# EAGLE library part ARDUINO_UNO_R3_SHIELD (library Strutz Electronic Industries)
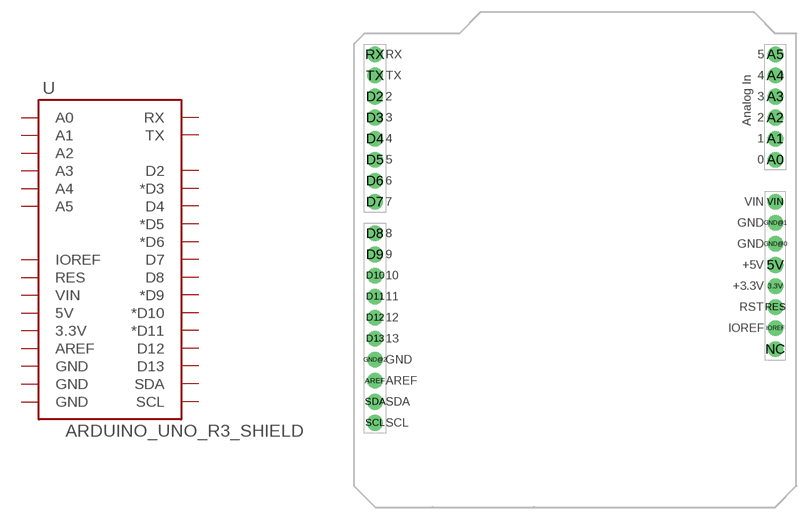
[diagram p32: symbol with the pads of ARDUINO_UNO_R3_SHIELD; footprint ARDUINO_UNO_R3_SHIELD]

Designator prefix -

## ARDUINO_UNO_R3_SHIELD  [ARDUINO_UNO_R3_SHIELD]
3.3V  3.3V
5V  5V
A0  A0
A1  A1
A2  A2
A3  A3
A4  A4
A5  A5
AREF  AREF
D2  D2
D3  *D3
D4  D4
D5  *D5
D6  *D6
D7  D7
D8  D8
D9  *D9
D10  *D10
D11  *D11
D12  D12
D13  D13
GND@0  GND
GND@1  GND
GND@2  GND
IOREF  IOREF
RES  RES
RX  RX
SCL  SCL
SDA  SDA
TX  TX
VIN  VIN

## Footprint ARDUINO_UNO_R3_SHIELD (pad centres in mm)
drill 1.016 pad 1.88: 3.3V 24.13,1.27; 5V 24.13,3.81; A0 24.13,16.51; A1 24.13,19.05; A2 24.13,21.59; A3 24.13,24.13; A4 24.13,26.67; A5 24.13,29.21; AREF -24.13,-10.16; D2 -24.13,24.13; D3 -24.13,21.59; D4 -24.13,19.05; D5 -24.13,16.51; D6 -24.13,13.97; D7 -24.13,11.43; D8 -24.13,7.62; D9 -24.13,5.08; D10 -24.13,2.54; D11 -24.13,0; D12 -24.13,-2.54; D13 -24.13,-5.08; GND@0 24.13,6.35; GND@1 24.13,8.89; GND@2 -24.13,-7.62; IOREF 24.13,-3.81; NC 24.13,-6.35; RES 24.13,-1.27; RX -24.13,29.21; SCL -24.13,-15.24; SDA -24.13,-12.7; TX -24.13,26.67; VIN 24.13,11.43